# EAGLE library part TPS61230A (library 32bits)
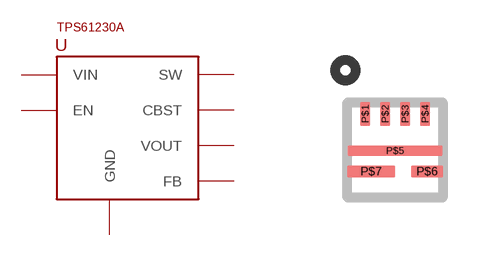
[diagram p7: symbol with the pads of VQFN7; footprint VQFN7]

Designator prefix U

## TPS61230A  [VQFN7]
P$1  CBST  in
P$2  EN  in
P$3  FB  in
P$4  VIN  pwr
P$5  SW
P$6  GND  pwr
P$7  VOUT  pwr

## Footprint VQFN7 (pad centres in mm)
smd 0.25 x 0.6: P$1 -0.75,0.9; P$2 -0.25,0.9; P$3 0.25,0.9; P$4 0.75,0.9
smd 2.38 x 0.25: P$5 0,-0.015
smd 0.8 x 0.3: P$6 0.8,-0.54
smd 1.2 x 0.3: P$7 -0.6,-0.54